# Altium schematic symbol library 74HCT14DB,118.Schlib: 1 symbol
Pins are listed as number, name and electrical type; pins without a type are passive.

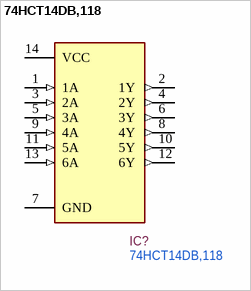
[diagram p0: symbol 74HCT14DB,118]

## 74HCT14DB,118
designator IC?
Inverter Schmitt Trigger 6-Element CMOS 14-Pin SSOP T/R; Manufacturer 1: NXP Semiconductors; Operating Supply Voltage: 5V; Logic Function: Buffer,Inverter,Schmitt Trigger; High Level Output Current: -4mA; Low Level Output Current: 4mA; Number of Elements: 6; Propagation Delay: 34ns; Max Supply Voltage: 5.5V; Min Supply Voltage: 4.5V; Quiescent Current: 2uA; Number of Inputs: 1; Turn-On Delay Time: 51ns; Supplier 1: Arrow; Manufacturer Part Number 1: 74HCT14DB,118; RoHS: Yes; Category: Logic Gates; Stock 1: 4073; Pricing 1: 1=0.47260, 10=0.47010, 25=0.46760, 100=0.46500, 250=0.46250, 500=0.46000, 1000=0.45740, 3000=0.45490, 1=0.11770, 10=0.11640, 50=0.11530, 100=0.11410, 1=0.41360, 10=0.35240, 50=0.30190, 100=0.26980 (USD); Mount: Surface Mount; Case/Package: SSOP; Number of Pins: 14; Contact Plating: Gold; Min Operating Temperature: -40°C; Max Operating Temperature: 125°C; Packaging: Tape and Reel; Package Quantity: 2000; Number of Circuits: 6; Max Supply Voltage (DC): 5.5V; Min Supply Voltage (DC): 4.5V; Radiation Hardening: No; Supplier Part Number 1: 74HCT14DB,118; LCSC Part #: C5606; ComponentLink1Description: LCSC - Nexperia 74HC14PW,118; ComponentLink1URL: https://lcsc.com/product-detail/Gates-and-Inverters_Nexperia-74HC14PW-118_C5606.html; JLCPCB Part Type: Extended
footprint SOP65P775X200-14N (Footprint not found)
pins: 1 1A (in), 2 1Y (out), 3 2A (in), 4 2Y (out), 5 3A (in), 6 3Y (out), 7 GND (power), 8 4Y (out), 9 4A (in), 10 5Y (out), 11 5A (in), 12 6Y (out), 13 6A (in), 14 VCC (power)